# EAGLE library part MPM3620GQV-P (library RoboJackets-PowerICs)
Non-Isolated PoL Module DC DC Converter 1 Output 0.8 ~ 18.48V 2A 4.5V - 24V Input
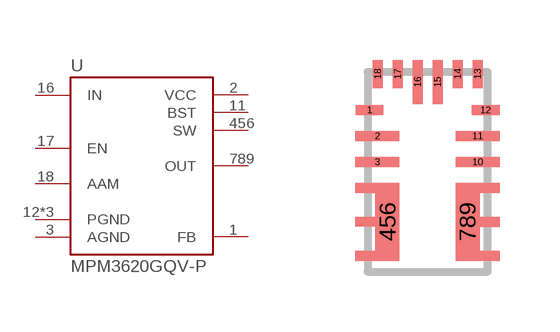
[diagram p4: symbol with the pads of MPM3620GQV-P; footprint MPM3620GQV-P]

Designator prefix U

## MPM3620GQV-P (DKPN: 1589-1252-1-ND)  [MPM3620GQV-P]
1  FB
2  VCC
3  AGND
11  BST
12  PGND
13  PGND
14  PGND
16  IN
17  EN
18  AAM
456  SW
789  OUT

## Footprint MPM3620GQV-P (pad centres in mm)
smd 0.7 x 0.25: 1 -1.45,1.55; 12 1.45,1.55
smd 1.1 x 0.25: 2 -1.25,0.9; 3 -1.25,0.25; 10 1.25,0.25; 11 1.25,0.9
smd 0.25 x 0.7: 13 1.25,2.45; 14 0.75,2.45; 17 -0.75,2.45; 18 -1.25,2.45
smd 0.25 x 1.1: 15 0.25,2.25; 16 -0.25,2.25
smd 0.6 x 1.95: 456 -1,-1.25; 789 1,-1.25